# EAGLE library part TFT-22-NOSD (library alvie)
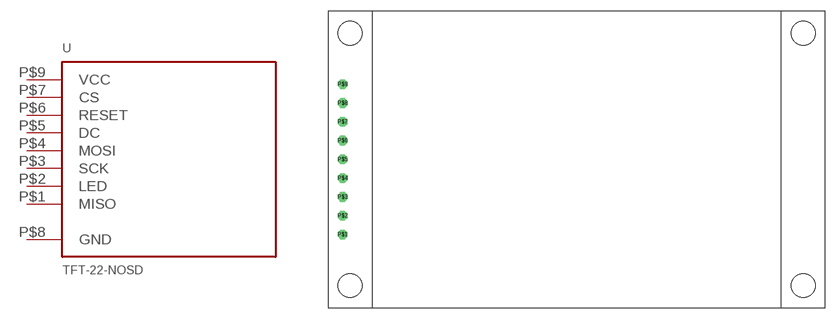
[diagram p13: symbol with the pads of TFT-22-NOSD; footprint TFT-22-NOSD]

Designator prefix -

## TFT-22-NOSD  [TFT-22-NOSD]
P$1  MISO
P$2  LED  in
P$3  SCK  in
P$4  MOSI  in
P$5  DC  in
P$6  RESET  in
P$7  CS  in
P$8  GND  pwr
P$9  VCC  pwr

## Footprint TFT-22-NOSD (pad centres in mm)
drill 0.8 octagon: P$1 -31.6,-10.16; P$2 -31.6,-7.62; P$3 -31.6,-5.08; P$4 -31.6,-2.54; P$5 -31.6,0; P$6 -31.6,2.54; P$7 -31.6,5.08; P$8 -31.6,7.62; P$9 -31.6,10.16
hole 3.2 at -30.6,-17.05
hole 3.2 at -30.6,17.05
hole 3.2 at 30.6,17.05
hole 3.2 at 30.6,-17.05